# Altium schematic symbol library ADM2582EBRWZ.SchLib: 1 symbol
Pins are listed as number, name and electrical type; pins without a type are passive.

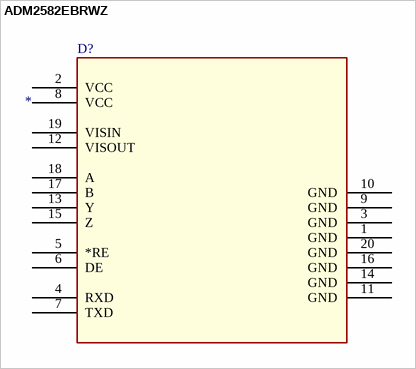
[diagram p0: symbol ADM2582EBRWZ]

## ADM2582EBRWZ
designator D?
Signal and Power Isolated RS-485 Transceiver; Mfr_Name: Analog Devices Inc; RefDes: RefDes; Type: Type
footprint RW_20_ADI
pins: 1 GND, 2 VCC, 3 GND, 4 RXD, 5 *RE, 6 DE, 7 TXD, 8 VCC, 9 GND, 10 GND, 11 GND, 12 VISOUT, 13 Y, 14 GND, 15 Z, 16 GND, 17 B, 18 A, 19 VISIN, 20 GND